# EAGLE library part DRV8825 (library Richard_Boards)
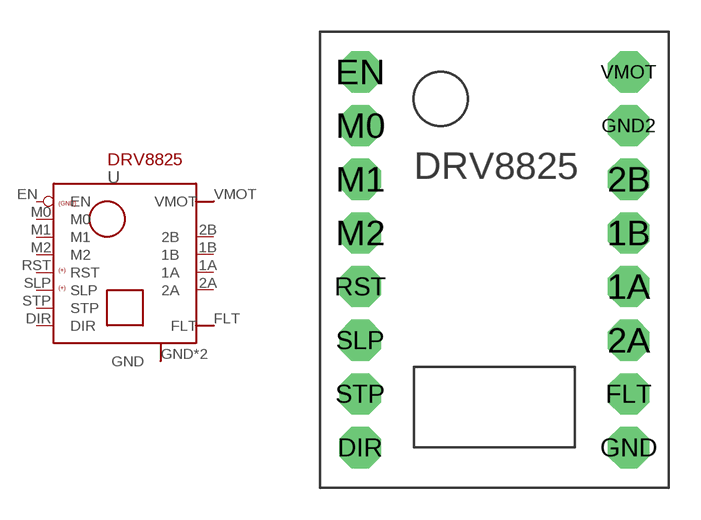
[diagram p0: symbol with the pads of DRV8825; footprint DRV8825]

Designator prefix -

## DRV8825  [DRV8825]
1A  1A  pas
1B  1B  pas
2A  2A  pas
2B  2B  pas
DIR  DIR  pas
EN  EN  pas
FLT  FLT  pas
GND  GND  pas
GND2  GND  pas
M0  M0  pas
M1  M1  pas
M2  M2  pas
RST  RST  pas
SLP  SLP  pas
STP  STP  pas
VMOT  VMOT  pas

## Footprint DRV8825 (pad centres in mm)
drill 1.3 octagon: 1A 6.35,-1.27; 1B 6.35,1.27; 2A 6.35,-3.81; 2B 6.35,3.81; DIR -6.35,-8.89; EN -6.35,8.89; FLT 6.35,-6.35; GND 6.35,-8.89; GND2 6.35,6.35; M0 -6.35,6.35; M1 -6.35,3.81; M2 -6.35,1.27; RST -6.35,-1.27; SLP -6.35,-3.81; STP -6.35,-6.35; VMOT 6.35,8.89